# Altium footprint library PcbLib1.PcbLib: 1 footprints
Each footprint in its own frame and in the unit in brackets; x right, y up, seen from the top. Pads: shape width x height; smd on the part's side, far side on the other; paste and mask are expansions set on the pad; w line width, h text height; cw(c..) or ccw(c..) is an arc to the next point about the centre after c.
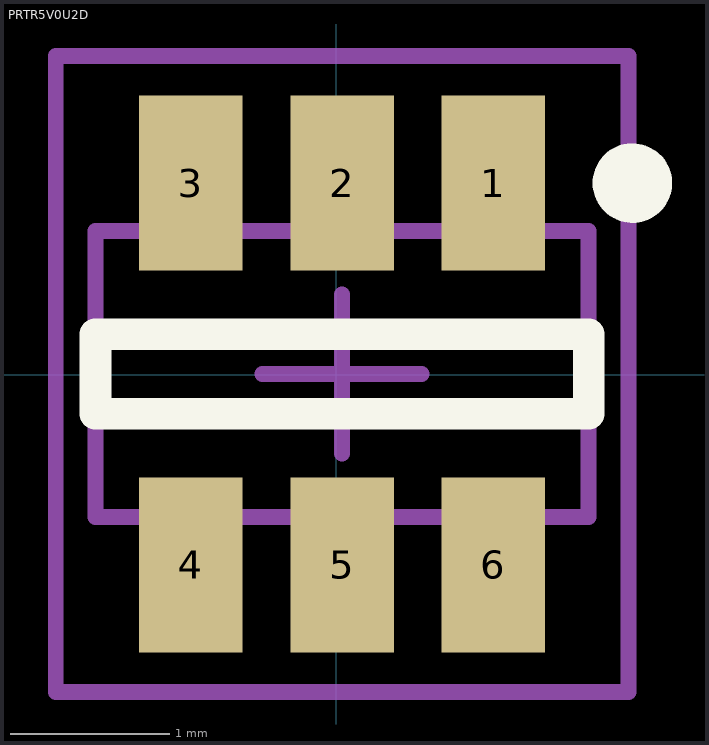
[diagram p0: the footprint, top view; thin cyan lines are the x and y axes]

## PRTR5V0U2D [mm]
pads (6):
  rect 0.65x1.1 smd: 1(0.987,1.204) 2(0.037,1.204) 3(-0.913,1.204) 4(-0.913,-1.196) 5(0.037,-1.196) 6(0.987,-1.196)
Top Overlay:
  circle w0.25: c1.862,1.204 r0.125
  lines w0.2: -1.513,-0.246 -1.513,0.254 1.587,0.254 1.587,-0.246 -1.513,-0.246
Mechanical 13:
  lines w0.1: -1.513,-0.896 1.587,-0.896 1.587,0.904 -1.513,0.904 -1.513,-0.896
Mechanical 15:
  lines w0.1: -0.463,0.004 0.537,0.004 ; 0.037,-0.496 0.037,0.504 ; -1.763,-1.996 1.837,-1.996 1.837,2.004 -1.763,2.004 -1.763,-1.996
3D body: height 1.1, standoff 0, extent -1.513,-0.896 1.587,0.904